# EAGLE library part ZX80-B-5SA (library con-usb)
USB - micro B USB 2.0 Plug Connector 5 Position Surface Mount, Through Hole
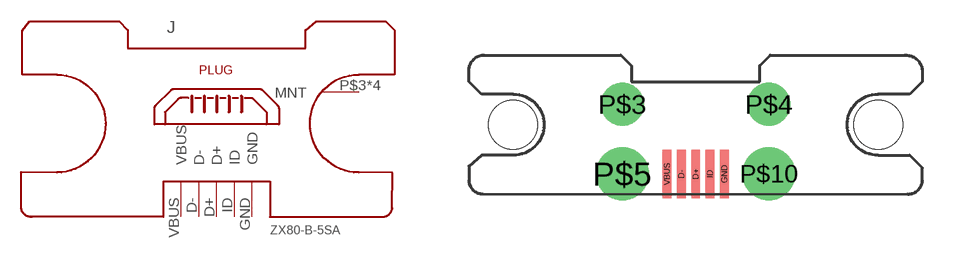
[diagram p14: symbol with the pads of ZX80-B-5SA(30); footprint ZX80-B-5SA(30)]

Designator prefix J

## ZX80-B-5SA (DIGIKEY: H125243-ND; MFR: Hirose; MPN: ZX80-B-5SA)  [ZX80-B-5SA(30)]
D+  D+
D-  D-
GND  GND
ID  ID
P$3  MNT
P$4  MNT
P$5  MNT
P$10  MNT
VBUS  VBUS

## Footprint ZX80-B-5SA(30) (pad centres in mm)
smd 0.4 x 2.2: D+ 0,-1.86; D- -0.65,-1.86; GND 1.3,-1.86; ID 0.65,-1.86; VBUS -1.3,-1.86
drill 1.3: P$3 -3.325,1.29; P$4 3.325,1.29
drill 1.6: P$5 -3.325,-1.86; P$10 3.325,-1.86
hole 2.2 at -8.275,0.37
hole 2.2 at 8.275,0.37